# EAGLE library part AT25FS010 (library LM4880)
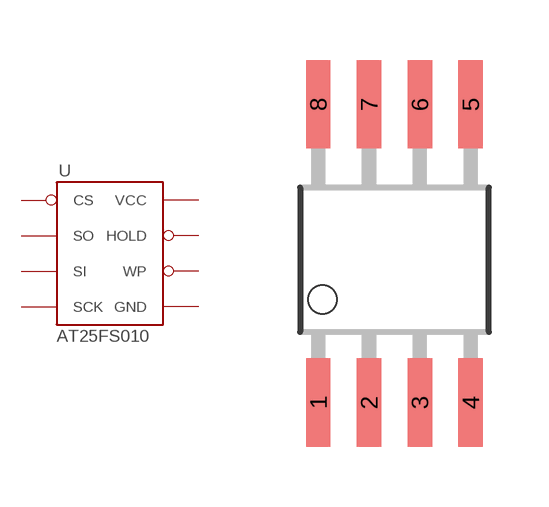
[diagram p248: symbol with the pads of SO08WIDE; footprint SO08WIDE]

Designator prefix -

## AT25FS010  [SO08WIDE]
1  CS
2  SO
3  WP
4  GND
5  SI
6  SCK
7  HOLD
8  VCC

## Footprint SO08WIDE (pad centres in mm)
smd 0.61 x 2.21: 1 -1.905,-3.569; 2 -0.635,-3.569; 3 0.635,-3.569; 4 1.905,-3.569; 5 1.905,3.886; 6 0.635,3.886; 7 -0.635,3.886; 8 -1.905,3.886